# EAGLE library part MT42L128M32 (library micron)
MT42L128M32D1-25 edit this description Auto generated by make-symbol-device-package-bsdl.ulp Rev. 44 Source: MT42L128M32D1-25.txt
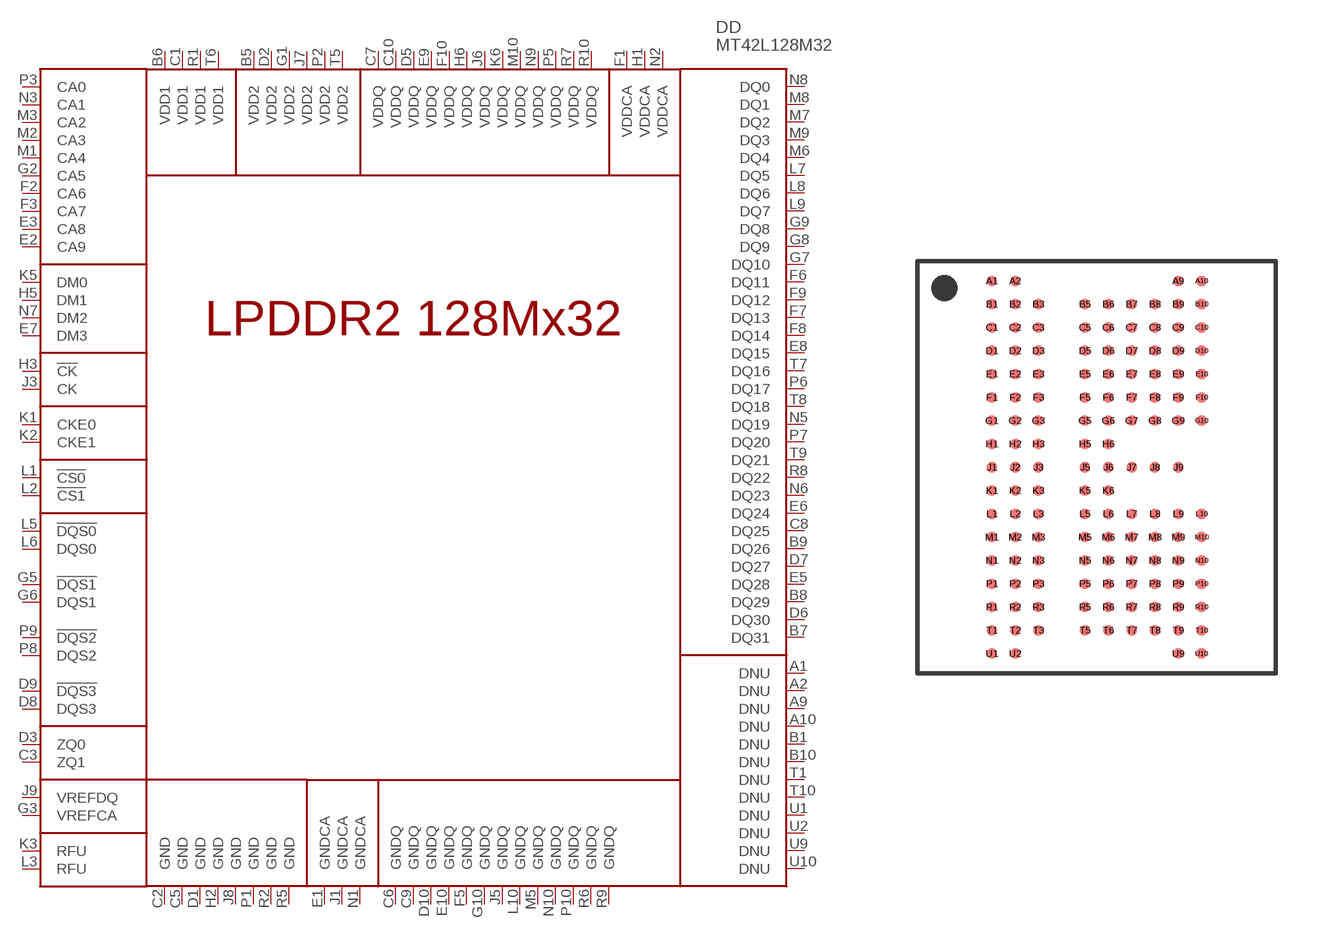
[diagram p0: symbol with the pads of FBGA134; footprint FBGA134]

Designator prefix DD

## MT42L128M32D1-25  [FBGA134]
A1  DNU
A2  DNU
A9  DNU
A10  DNU
B1  DNU
B5  VDD2  pwr
B6  VDD1  pwr
B7  DQ31
B8  DQ29
B9  DQ26
B10  DNU
C1  VDD1  pwr
C2  GND  pwr
C3  ZQ1
C5  GND  pwr
C6  GNDQ  pwr
C7  VDDQ  pwr
C8  DQ25
C9  GNDQ  pwr
C10  VDDQ  pwr
D1  GND  pwr
D2  VDD2  pwr
D3  ZQ0
D5  VDDQ  pwr
D6  DQ30
D7  DQ27
D8  DQS3
D9  !DQS3
D10  GNDQ  pwr
E1  GNDCA  pwr
E2  CA9  in
E3  CA8  in
E5  DQ28
E6  DQ24
E7  DM3
E8  DQ15
E9  VDDQ  pwr
E10  GNDQ  pwr
F1  VDDCA  pwr
F2  CA6  in
F3  CA7  in
F5  GNDQ  pwr
F6  DQ11
F7  DQ13
F8  DQ14
F9  DQ12
F10  VDDQ  pwr
G1  VDD2  pwr
G2  CA5  in
G3  VREFCA  pas
G5  !DQS1
G6  DQS1
G7  DQ10
G8  DQ9
G9  DQ8
G10  GNDQ  pwr
H1  VDDCA  pwr
H2  GND  pwr
H3  !CK  in
H5  DM1
H6  VDDQ  pwr
J1  GNDCA  pwr
J3  CK  in
J5  GNDQ  pwr
J6  VDDQ  pwr
J7  VDD2  pwr
J8  GND  pwr
J9  VREFDQ  pas
K1  CKE0  in
K2  CKE1  in
K3  RFU
K5  DM0
K6  VDDQ  pwr
L1  !CS0  in
L2  !CS1  in
L3  RFU
L5  !DQS0
L6  DQS0
L7  DQ5
L8  DQ6
L9  DQ7
L10  GNDQ  pwr
M1  CA4  in
M2  CA3  in
M3  CA2  in
M5  GNDQ  pwr
M6  DQ4
M7  DQ2
M8  DQ1
M9  DQ3
M10  VDDQ  pwr
N1  GNDCA  pwr
N2  VDDCA  pwr
N3  CA1  in
N5  DQ19
N6  DQ23
N7  DM2
N8  DQ0
N9  VDDQ  pwr
N10  GNDQ  pwr
P1  GND  pwr
P2  VDD2  pwr
P3  CA0  in
P5  VDDQ  pwr
P6  DQ17
P7  DQ20
P8  DQS2
P9  !DQS2
P10  GNDQ  pwr
R1  VDD1  pwr
R2  GND  pwr
R5  GND  pwr
R6  GNDQ  pwr
R7  VDDQ  pwr
R8  DQ22
R9  GNDQ  pwr
R10  VDDQ  pwr
T1  DNU
T5  VDD2  pwr
T6  VDD1  pwr
T7  DQ16
T8  DQ18
T9  DQ21
T10  DNU
U1  DNU
U2  DNU
U9  DNU
U10  DNU

## Footprint FBGA134 (pad centres in mm)
smd 0.3 x 0.3: A1 -2.925,5.2; A2 -2.275,5.2; A9 2.275,5.2; A10 2.925,5.2; B1 -2.925,4.55; B2 -2.275,4.55; B3 -1.625,4.55; B5 -0.325,4.55; B6 0.325,4.55; B7 0.975,4.55; B8 1.625,4.55; B9 2.275,4.55; B10 2.925,4.55; C1 -2.925,3.9; C2 -2.275,3.9; C3 -1.625,3.9; C5 -0.325,3.9; C6 0.325,3.9; C7 0.975,3.9; C8 1.625,3.9; C9 2.275,3.9; C10 2.925,3.9; D1 -2.925,3.25; D2 -2.275,3.25; D3 -1.625,3.25; D5 -0.325,3.25; D6 0.325,3.25; D7 0.975,3.25; D8 1.625,3.25; D9 2.275,3.25; D10 2.925,3.25; E1 -2.925,2.6; E2 -2.275,2.6; E3 -1.625,2.6; E5 -0.325,2.6; E6 0.325,2.6; E7 0.975,2.6; E8 1.625,2.6; E9 2.275,2.6; E10 2.925,2.6; F1 -2.925,1.95; F2 -2.275,1.95; F3 -1.625,1.95; F5 -0.325,1.95; F6 0.325,1.95; F7 0.975,1.95; F8 1.625,1.95; F9 2.275,1.95; F10 2.925,1.95; G1 -2.925,1.3; G2 -2.275,1.3; G3 -1.625,1.3; G5 -0.325,1.3; G6 0.325,1.3; G7 0.975,1.3; G8 1.625,1.3; G9 2.275,1.3; G10 2.925,1.3; H1 -2.925,0.65; H2 -2.275,0.65; H3 -1.625,0.65; H5 -0.325,0.65; H6 0.325,0.65; J1 -2.925,0; J2 -2.275,0; J3 -1.625,0; J5 -0.325,0; J6 0.325,0; J7 0.975,0; J8 1.625,0; J9 2.275,0; K1 -2.925,-0.65; K2 -2.275,-0.65; K3 -1.625,-0.65; K5 -0.325,-0.65; K6 0.325,-0.65; L1 -2.925,-1.3; L2 -2.275,-1.3; L3 -1.625,-1.3; L5 -0.325,-1.3; L6 0.325,-1.3; L7 0.975,-1.3; L8 1.625,-1.3; L9 2.275,-1.3; L10 2.925,-1.3; M1 -2.925,-1.95; M2 -2.275,-1.95; M3 -1.625,-1.95; M5 -0.325,-1.95; M6 0.325,-1.95; M7 0.975,-1.95; M8 1.625,-1.95; M9 2.275,-1.95; M10 2.925,-1.95; N1 -2.925,-2.6; N2 -2.275,-2.6; N3 -1.625,-2.6; N5 -0.325,-2.6; N6 0.325,-2.6; N7 0.975,-2.6; N8 1.625,-2.6; N9 2.275,-2.6; N10 2.925,-2.6; P1 -2.925,-3.25; P2 -2.275,-3.25; P3 -1.625,-3.25; P5 -0.325,-3.25; P6 0.325,-3.25; P7 0.975,-3.25; P8 1.625,-3.25; P9 2.275,-3.25; P10 2.925,-3.25; R1 -2.925,-3.9; R2 -2.275,-3.9; R3 -1.625,-3.9; R5 -0.325,-3.9; R6 0.325,-3.9; R7 0.975,-3.9; R8 1.625,-3.9; R9 2.275,-3.9; R10 2.925,-3.9; T1 -2.925,-4.55; T2 -2.275,-4.55; T3 -1.625,-4.55; T5 -0.325,-4.55; T6 0.325,-4.55; T7 0.975,-4.55; T8 1.625,-4.55; T9 2.275,-4.55; T10 2.925,-4.55; U1 -2.925,-5.2; U2 -2.275,-5.2; U9 2.275,-5.2; U10 2.925,-5.2